# Altium footprint library TC2XX&TC3XX_MotherBoard.PcbLib: 33 footprints (part 1 of 3)
Each footprint in its own frame and in the unit in brackets; x right, y up, seen from the top. Pads: shape width x height; smd on the part's side, far side on the other; paste and mask are expansions set on the pad; w line width, h text height; cw(c..) or ccw(c..) is an arc to the next point about the centre after c.
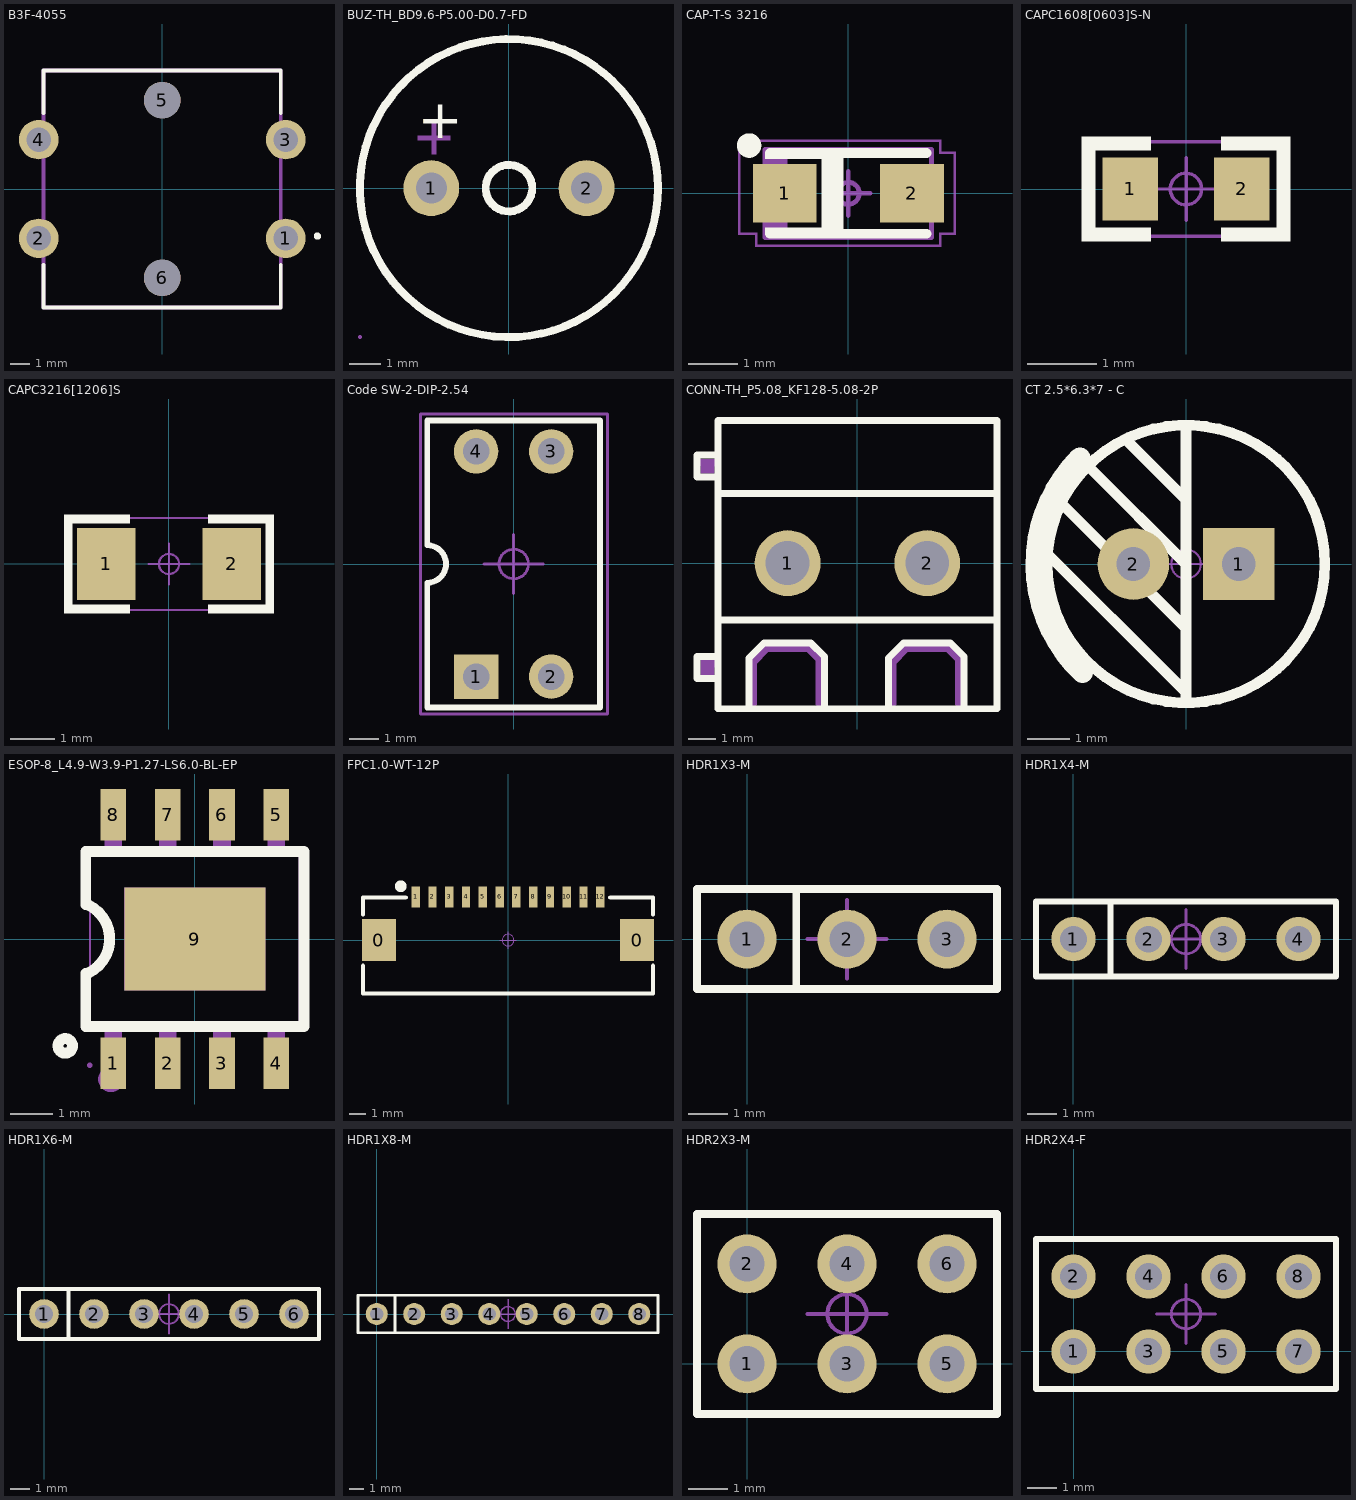
[diagram p0: the footprints below, top view; thin cyan lines are the x and y axes]

## B3F-4055 [mm]
pads (6):
  round 2 hole 1.25: 1(6.25,-2.5) 2(-6.25,-2.5) 3(6.25,2.5) 4(-6.25,2.5)
  round 1.85 hole 1.85 unplated: 5(0,4.5) 6(0,-4.5)
Top Overlay:
  circle w0.2: c7.855,-2.384 r0.082
  lines w0.2: -6,-3.849 -6,-6 6,-6 6,-3.849 ; -6,3.849 -6,6 6,6 6,3.849
Mechanical 13:
  lines w0.2: -6,-6 -6,6 6,6 6,-6 -6,-6
3D body: height 7.3, standoff -3.5, extent -6.9,-6.05 6.9,6.05

## BUZ-TH_BD9.6-P5.00-D0.7-FD [mm]
pads (2):
  round 1.8 hole 1: 1(-2.5,0) 2(2.5,0)
Top Overlay:
  circle w0.254: c0,0 r4.8
  circle w0.254: c0,0 r0.75
  text "+" at -2.93,1.61 h1.27
Mechanical 6:
  region: -2.484,1.084 -2.344,1.084 -2.344,2.134 -2.484,2.134 -2.484,2.114
  region: -2.939,1.679 -2.939,1.539 -1.889,1.539 -1.889,1.679 -1.909,1.679
Mechanical 15:
  region: -4.74,-4.8 -4.741,-4.776 -4.776,-4.742 -4.824,-4.742 -4.859,-4.776 -4.86,-4.8 -4.859,-4.824 -4.824,-4.858 -4.776,-4.858 -4.741,-4.824 -4.74,-4.8
  region: 2.85,0 2.85,0.07 2.797,0.198 2.698,0.297 2.57,0.35 2.43,0.35 2.302,0.297 2.203,0.198 2.15,0.07 2.15,0 2.15,-0.07 2.203,-0.198 2.302,-0.297 2.43,-0.35 2.57,-0.35 2.698,-0.297 2.797,-0.198 2.85,-0.07 2.85,0
  region: -2.15,0 -2.15,0.07 -2.203,0.198 -2.302,0.297 -2.43,0.35 -2.57,0.35 -2.698,0.297 -2.797,0.198 -2.85,0.07 -2.85,0 -2.85,-0.07 -2.797,-0.198 -2.698,-0.297 -2.57,-0.35 -2.43,-0.35 -2.302,-0.297 -2.203,-0.198 -2.15,-0.07 -2.15,0
  lines w0.051: -4.8,0 ccw(c0,0) 4.8,0 ccw(c0,0) -4.8,0

## CAP-T-S 3216 [mm] "贴片 钽电容 A型 3216"
height 1.8
pads (2):
  rect 1.3x1.2 smd: 1(-1.3,0) 2(1.3,0)
Top Overlay:
  circle w0.25: c-2.025,0.975 r0.125
  region: -0.375,-0.7 -1.7,-0.7 -1.7,-0.825 -0.375,-0.825
  rectangle: -0.548,-0.897 -0.098,0.853
  rectangle: -1.7,0.7 -0.375,0.85
  lines w0.2: -1.6,-0.825 1.6,-0.825 ; -1.6,0.825 1.6,0.825
Mechanical 10:
  text ".Designator" at -2.252,-0.151 h1
Mechanical 13:
  rectangle: -1.7,-0.9 -1.243,0.9
  lines w0.1: -1.7,-0.9 1.7,-0.9 1.7,0.9 -1.7,0.9 -1.7,-0.9
Mechanical 14:
  region: 2.2,-0.85 2.2,-0.8 1.85,-0.8 1.85,-0.85
  region: -1.9,-1.05 -1.9,-1.1 1.9,-1.1 1.9,-1.05
  rectangle: 1.85,-1.1 1.9,-0.8
  region: 2.2,0.85 2.15,0.85 2.15,-0.85 2.2,-0.85
  region: -1.85,-0.8 -1.9,-0.8 -1.9,-1.1 -1.85,-1.1
  region: -1.85,-0.85 -1.85,-0.8 -2.251,-0.8 -2.251,-0.85
  rectangle: -2.251,-0.85 -2.201,1.1
  region: 1.85,0.85 1.85,0.8 2.2,0.8 2.2,0.85
  rectangle: 1.85,0.8 1.9,1.1
  region: 1.9,1.05 1.9,1.1 -2.251,1.1 -2.251,1.05
Mechanical 16:
  circle w0.1: c0,0 r0.225
  lines w0.1: -0.45,0 0.45,0 ; 0,-0.45 0,0.45
3D body: height 1.6, standoff 0, extent -1.6,-0.8 1.6,0.8

## CAPC1608[0603]S-N [mm] "0603贴片电容 有丝印 2脚 1.60x0.80mm IPC中密度"
height 0.85
pads (2):
  rect 0.8x0.9 smd: 1(-0.8,0) 2(0.8,0)
Top Overlay:
  region: -1.5,0.753 -1.5,-0.747 -1.3,-0.747 -1.3,0.753
  rectangle: -1.5,-0.75 -0.5,-0.55
  rectangle: -1.5,0.55 -0.5,0.75
  region: 1.5,-0.55 0.5,-0.55 0.5,-0.75 1.5,-0.75
  region: 1.5,-0.747 1.5,0.753 1.3,0.753 1.3,-0.747
  region: 1.5,0.75 0.5,0.75 0.5,0.55 1.5,0.55
Mechanical 10:
  text ".Designator" at -2.252,-0.226 h1
Mechanical 14:
  rectangle: -1.45,-0.7 -1.4,0.7
  region: -1.45,-0.65 -1.45,-0.7 1.45,-0.7 1.45,-0.65
  region: 1.45,0.65 1.45,0.7 -1.45,0.7 -1.45,0.65
  region: 1.45,0.7 1.4,0.7 1.4,-0.7 1.45,-0.7
Mechanical 16:
  circle w0.05: c0,0 r0.225
  lines w0.05: -0.45,0 0.45,0 ; 0,-0.45 0,0.45
3D body: height 0.79, standoff 0, extent -0.8,-0.406 -0.45,0.406
3D body: height 0.79, standoff 0, extent -0.45,-0.406 0.45,0.406
3D body: height 0.79, standoff 0, extent 0.45,-0.406 0.8,0.407

## CAPC3216[1206]S [mm] "1206贴片电容 有丝印 2脚 3.20x1.60mm IPC中密度"
height 1.35
pads (2):
  rect 1.3x1.6 smd: 1(-1.4,0) 2(1.4,0)
Top Overlay:
  region: 2.35,-1.1 2.35,1.1 2.15,1.1 2.15,-1.1
  region: 2.345,1.106 0.87,1.106 0.87,0.906 2.345,0.906
  region: 2.345,-0.906 0.87,-0.906 0.87,-1.106 2.345,-1.106
  rectangle: -2.35,0.9 -0.875,1.1
  region: -2.35,1.1 -2.35,-1.1 -2.15,-1.1 -2.15,1.1
  rectangle: -2.35,-1.1 -0.875,-0.9
Mechanical 10:
  text ".Designator" at 2.252,0.226 h1
Mechanical 14:
  region: 2.3,1.05 2.25,1.05 2.25,-1.05 2.3,-1.05
  region: 2.3,1 2.3,1.05 -2.3,1.05 -2.3,1
  region: -2.3,-1 -2.3,-1.05 2.3,-1.05 2.3,-1
  rectangle: -2.3,-1.05 -2.25,1.05
Mechanical 16:
  circle w0.05: c0,0 r0.225
  lines w0.05: -0.45,0 0.45,0 ; 0,-0.45 0,0.45
3D body: height 1.21, standoff -0.01, extent -1.6,-0.81 1.6,0.81

## Code SW-2-DIP-2.54 [mm] "2位直插拨码开关 间距2.54"
height 1.2
pads (4):
  rect 1.5x1.5 hole 0.9: 1(-1.27,-3.81)
  round 1.5 hole 0.9: 2(1.27,-3.81) 3(1.27,3.81) 4(-1.27,3.81)
Top Overlay:
  lines w0.2: -2.925,-4.85 -2.925,-0.635 ccw(c-2.925,0) -2.925,0.635 -2.925,4.85 2.925,4.85 2.925,-4.85 -2.925,-4.85
Mechanical 10:
  text ".Designator" at -2.252,-0.226 h1
Mechanical 14:
  lines w0.1: -3.15,-5.075 -3.15,5.075 3.175,5.075 3.175,-5.075 -3.15,-5.075
Mechanical 16:
  circle w0.1: c0,0 r0.5
  lines w0.1: -1,0 1,0 ; 0,-1 0,1
3D body: height 7.03, standoff -3.67, extent -3.04,-4.95 3.04,4.95

## CONN-TH_P5.08_KF128-5.08-2P [mm]
pads (2):
  round 2.4 hole 1.6: 1(-2.54,0) 2(2.54,0)
Top Overlay:
  lines w0.254: -5.08,-4.191 -5.842,-4.191 -5.842,-3.393 -5.08,-3.393 ; -5.08,-2.073 5.08,-2.073 ; -5.08,2.537 5.08,2.537 ; -5.08,3.139 -5.842,3.139 -5.842,3.937 -5.08,3.937 ; -5.08,5.2 5.08,5.2 5.08,-5.3 -5.08,-5.3 -5.08,5.2 ; -3.95,-5.3 -3.95,-3.45 -3.4,-2.9 -1.7,-2.9 -1.2,-3.4 -1.2,-5.3 ; 1.13,-5.3 1.13,-3.45 1.68,-2.9 3.38,-2.9 3.88,-3.4 3.88,-5.3
Mechanical 6:
  region: 1.153,-5.1 1.153,-3.6 1.153,-3.587 1.158,-3.563 1.167,-3.54 1.181,-3.519 1.19,-3.51 1.69,-3.01 1.699,-3.001 1.72,-2.987 1.743,-2.978 1.767,-2.973 1.78,-2.973 3.28,-2.973 3.293,-2.973 3.317,-2.978 3.34,-2.987 3.361,-3.001 3.37,-3.01 3.77,-3.41 3.779,-3.419 3.793,-3.44 3.802,-3.463 3.807,-3.487 3.807,-3.5 3.807,-5.1 3.807,-5.153 3.733,-5.227 3.627,-5.227 3.553,-5.153 3.553,-5.1 3.553,-3.553 3.227,-3.227 1.833,-3.227 1.407,-3.653 1.407,-5.1 1.407,-5.153 1.333,-5.227 1.227,-5.227 1.153,-5.153 1.153,-5.1
  region: -5.2,3.79 -5.72,3.79 -5.71,3.28 -5.22,3.26
  region: -3.927,-5.1 -3.927,-3.6 -3.927,-3.587 -3.922,-3.563 -3.913,-3.54 -3.899,-3.519 -3.89,-3.51 -3.39,-3.01 -3.381,-3.001 -3.36,-2.987 -3.337,-2.978 -3.313,-2.973 -3.3,-2.973 -1.8,-2.973 -1.787,-2.973 -1.763,-2.978 -1.74,-2.987 -1.719,-3.001 -1.71,-3.01 -1.31,-3.41 -1.301,-3.419 -1.287,-3.44 -1.278,-3.463 -1.273,-3.487 -1.273,-3.5 -1.273,-5.1 -1.273,-5.153 -1.347,-5.227 -1.453,-5.227 -1.527,-5.153 -1.527,-5.1 -1.527,-3.553 -1.853,-3.227 -3.247,-3.227 -3.673,-3.653 -3.673,-5.1 -3.673,-5.153 -3.747,-5.227 -3.853,-5.227 -3.927,-5.153 -3.927,-5.1
  region: -5.2,-3.53 -5.71,-3.53 -5.71,-4.06 -5.22,-4.06
Mechanical 15:
  region: 2.09,-0.4 2.09,0.4 2.99,0.4 2.99,-0.4
  region: -2.99,-0.4 -2.99,0.4 -2.09,0.4 -2.09,-0.4
  region: -5.02,-5.3 -5.02,-5.275 -5.055,-5.24 -5.105,-5.24 -5.14,-5.275 -5.14,-5.3 -5.14,-5.325 -5.105,-5.36 -5.055,-5.36 -5.02,-5.325 -5.02,-5.3
  lines w0.051: -5.08,-5.3 5.08,-5.3 5.08,5.3 -5.08,5.3 -5.08,-5.3

## CT 2.5*6.3*7 - C [mm] "脚距2.5mm , 直径6.3mm , 高7mm"
pads (2):
  rect 1.7x1.7 hole 0.8: 1(1.25,0)
  round 1.7 hole 0.8: 2(-1.25,0)
Top Overlay:
  circle w0.254: c0,0 r3.3
  lines w0.254: -3.556,0.508 0,-3.048 ; -3.048,1.524 0,-1.524 ; -2.286,2.286 0,0 ; -1.397,2.921 0,1.524 ; 0,-3.15 0,3.15
  lines w0.504: -2.521,2.521 ccw(c0,0) -2.459,-2.582
Mechanical 15:
  circle w0.05: c0,0 r0.35
  lines w0.05: -0.5,0 0.5,0 ; 0,-0.5 0,0.5
3D body: height 7.05, standoff -3.45, extent -3.15,-3.144 3.15,3.145

## ESOP-8_L4.9-W3.9-P1.27-LS6.0-BL-EP [mm]
pads (9):
  rect 0.6x1.2 smd: 1(-1.905,-2.908) 2(-0.635,-2.908) 3(0.635,-2.908) 4(1.905,-2.908) 5(1.905,2.908) 6(0.635,2.908) 7(-0.635,2.908) 8(-1.905,2.908)
  rect 3.3x2.4 smd: 9(0,0)
Top Overlay:
  circle w0.254: c-3.03,-2.5 r0.17
  lines w0.254: -2.55,-0.8 -2.55,-2.05 2.55,-2.05 2.55,2.05 -2.55,2.05 -2.55,0.8 ; -2.5,-0.8 ccw(c-2.875,0) -2.5,0.8
Mechanical 6:
  circle w0.3: c-1.96,-3.28 r0.15
Mechanical 15:
  region: -2.394,-2.95 -2.394,-2.925 -2.429,-2.89 -2.479,-2.89 -2.514,-2.925 -2.514,-2.95 -2.514,-2.975 -2.479,-3.01 -2.429,-3.01 -2.394,-2.975 -2.394,-2.95
  region: -2.105,-2.95 -2.105,-2.3 -1.705,-2.3 -1.705,-2.95
  region: -2.105,-2.31 -2.105,-1.94 -1.705,-1.94 -1.705,-2.31
  region: -2.105,1.94 -2.105,2.31 -1.705,2.31 -1.705,1.94
  region: -2.105,2.3 -2.105,2.95 -1.705,2.95 -1.705,2.3
  region: 1.65,-1.2 -1.65,-1.2 -1.65,1.2 1.65,1.2
  region: -0.835,-2.95 -0.835,-2.3 -0.435,-2.3 -0.435,-2.95
  region: 0.435,-2.95 0.435,-2.3 0.835,-2.3 0.835,-2.95
  region: 0.435,-2.31 0.435,-1.94 0.835,-1.94 0.835,-2.31
  region: -0.835,-2.31 -0.835,-1.94 -0.435,-1.94 -0.435,-2.31
  region: 1.705,-2.95 1.705,-2.3 2.105,-2.3 2.105,-2.95
  region: 1.705,-2.31 1.705,-1.94 2.105,-1.94 2.105,-2.31
  region: -0.835,1.94 -0.835,2.31 -0.435,2.31 -0.435,1.94
  region: 0.435,1.94 0.435,2.31 0.835,2.31 0.835,1.94
  region: 0.435,2.3 0.435,2.95 0.835,2.95 0.835,2.3
  region: -0.835,2.3 -0.835,2.95 -0.435,2.95 -0.435,2.3
  region: 1.705,1.94 1.705,2.31 2.105,2.31 2.105,1.94
  region: 1.705,2.3 1.705,2.95 2.105,2.95 2.105,2.3
  lines w0.051: -2.45,-1.95 -2.45,1.95 2.45,1.95 2.45,-1.95 -2.45,-1.95

## FPC1.0-WT-12P [mm] "卧贴翻盖FPC，脚距1mm，不含脚（长16.9mm，宽5.2mm，高1.96mm）黄晶宝石"
pads (14):
  rect 2x2.5 smd: 0(-7.69,0) 0(7.69,0)
  rect 0.5x1.25 smd: 1(-5.5,2.575) 2(-4.5,2.575) 3(-3.5,2.575) 4(-2.5,2.575) 5(-1.5,2.575) 6(-0.5,2.575) 7(0.5,2.575) 8(1.5,2.575) 9(2.5,2.575) 10(3.5,2.575) 11(4.5,2.575) 12(5.5,2.575)
Top Overlay:
  circle w0.5: c-6.389,3.21 r0.1
  lines w0.254: -8.636,-1.524 -8.636,-3.175 8.636,-3.175 8.636,-1.524 ; -8.636,1.524 -8.636,2.54 -6.096,2.54 ; 6.096,2.54 8.636,2.54 8.636,1.524
Mechanical 15:
  circle w0.05: c0,0 r0.35
  lines w0.05: -0.5,0 0.5,0 ; 0,-0.5 0,0.5
3D body: height -0.4, standoff -2.41, extent -8.45,-3.15 8.45,2.85

## HDR1X3-M [mm] "1x3pin, 2.54mm间距, 直插, 直排针"
height 0.5
pads (3):
  round 1.5 hole 0.9: 1(0,0) 2(2.54,0) 3(5.08,0)
Top Overlay:
  lines w0.2: 1.25,-1.25 1.25,1.25 ; -1.27,-1.27 -1.27,1.27 6.35,1.27 6.35,-1.27 -1.27,-1.27
Mechanical 10:
  text ".Designator" at 0.288,-0.226 h1
Mechanical 14:
  lines w0.1: -1.27,-1.27 -1.27,1.275 6.35,1.275 6.35,-1.27 -1.27,-1.27
Mechanical 16:
  circle w0.1: c2.54,0 r0.5
  lines w0.1: 1.54,0 3.54,0 ; 2.54,-1 2.54,1
3D body: height 8.54, standoff -3, extent -1.27,-1.27 6.35,1.27

## HDR1X4-M [mm] "1x4pin, 2.54mm间距, 直插, 直排针"
pads (4):
  round 1.5 hole 0.9: 1(0,0) 2(2.54,0) 3(5.08,0) 4(7.62,0)
Top Overlay:
  lines w0.2: 1.25,-1.25 1.25,1.25 ; -1.27,-1.27 -1.27,1.27 8.89,1.27 8.89,-1.27 -1.27,-1.27
Mechanical 10:
  text ".Designator" at 1.558,-0.226 h1
Mechanical 14:
  lines w0.1: -1.27,-1.27 8.89,-1.27 8.89,1.275 -1.27,1.275 -1.27,-1.27
Mechanical 16:
  circle w0.1: c3.81,0 r0.5
  lines w0.1: 2.81,0 4.81,0 ; 3.81,-1 3.81,1
3D body: height 8.54, standoff -3, extent -1.27,-1.27 8.89,1.27

## HDR1X6-M [mm] "1x6pin, 直插, 直排针, 2.54mm间距"
pads (6):
  round 1.5 hole 0.9: 1(0,0) 2(2.54,0) 3(5.08,0) 4(7.62,0) 5(10.16,0) 6(12.7,0)
Top Overlay:
  lines w0.2: 1.25,-1.25 1.25,1.25 ; -1.27,-1.27 -1.27,1.27 13.97,1.27 13.97,-1.27 -1.27,-1.27
Mechanical 10:
  text ".Designator" at 4.098,-0.226 h1
Mechanical 14:
  lines w0.1: -1.27,-1.27 -1.27,1.27 13.97,1.27 13.97,-1.27 -1.27,-1.27
Mechanical 16:
  circle w0.1: c6.35,0 r0.5
  lines w0.1: 5.35,0 7.35,0 ; 6.35,-1 6.35,1
3D body: height 8.54, standoff -3, extent -1.27,-1.27 13.97,1.27

## HDR1X8-M [mm] "1x7pin, 2.54mm间距, 直插, 直排针"
pads (8):
  round 1.5 hole 0.9: 1(0,0) 2(2.54,0) 3(5.08,0) 4(7.62,0) 5(10.16,0) 6(12.7,0) 7(15.24,0) 8(17.78,0)
Top Overlay:
  lines w0.2: 1.25,-1.25 1.25,1.25 ; -1.27,-1.27 -1.27,1.27 19.05,1.27 19.05,-1.27 -1.27,-1.27
Mechanical 10:
  text ".Designator" at 6.638,-0.226 h1
Mechanical 14:
  lines w0.1: -1.27,-1.27 -1.27,1.27 19.05,1.27 19.05,-1.27 -1.27,-1.27
Mechanical 16:
  circle w0.1: c8.89,0 r0.5
  lines w0.1: 7.89,0 9.89,0 ; 8.89,-1 8.89,1
3D body: height 8.54, standoff -3, extent -1.27,-1.27 19.05,1.27

## HDR2X3-M [mm] "2x3pin, 2.54mm间距, 直插, 直排针"
height 0.5
pads (6):
  round 1.5 hole 0.9: 1(0,0) 2(0,2.54) 3(2.54,0) 4(2.54,2.54) 5(5.08,0) 6(5.08,2.54)
Top Overlay:
  lines w0.2: 1.482,-1.27 6.35,-1.27 ; 6.35,-1.27 -1.27,-1.27 -1.27,3.81 6.35,3.81 6.35,-1.27
Mechanical 10:
  text ".Designator" at 3.434,0.854 h1
Mechanical 14:
  lines w0.1: -1.27,-1.275 -1.27,3.81 6.35,3.81 6.35,-1.275 -1.27,-1.275
Mechanical 16:
  circle w0.1: c2.54,1.27 r0.5
  lines w0.1: 1.54,1.27 3.54,1.27 ; 2.54,0.27 2.54,2.27
3D body: height 8.54, standoff -3, extent -1.27,-1.27 6.35,3.81

## HDR2X4-F [mm] "2x4pin, 2.54mm间距, 直插, 直排座"
pads (8):
  round 1.5 hole 0.9: 1(0,0) 2(0,2.54) 3(2.54,0) 4(2.54,2.54) 5(5.08,0) 6(5.08,2.54) 7(7.62,0) 8(7.62,2.54)
Top Overlay:
  lines w0.2: -1.27,-1.27 -1.27,3.81 8.89,3.81 8.89,-1.27 -1.27,-1.27
Mechanical 10:
  text ".Designator" at 6.062,1.496 h1
Mechanical 14:
  lines w0.1: -1.27,-1.27 -1.27,3.81 8.89,3.81 8.89,-1.27 -1.27,-1.27
Mechanical 16:
  circle w0.1: c3.81,1.27 r0.5
  lines w0.1: 2.81,1.27 4.81,1.27 ; 3.81,0.27 3.81,2.27
3D body: height 8.5, standoff -3.05, extent -1.505,-1.265 9.155,3.815